# Altium integrated library Linear Technology Power Management Hot Swap Controllers.IntLib: 992 symbols (part 32 of 93)
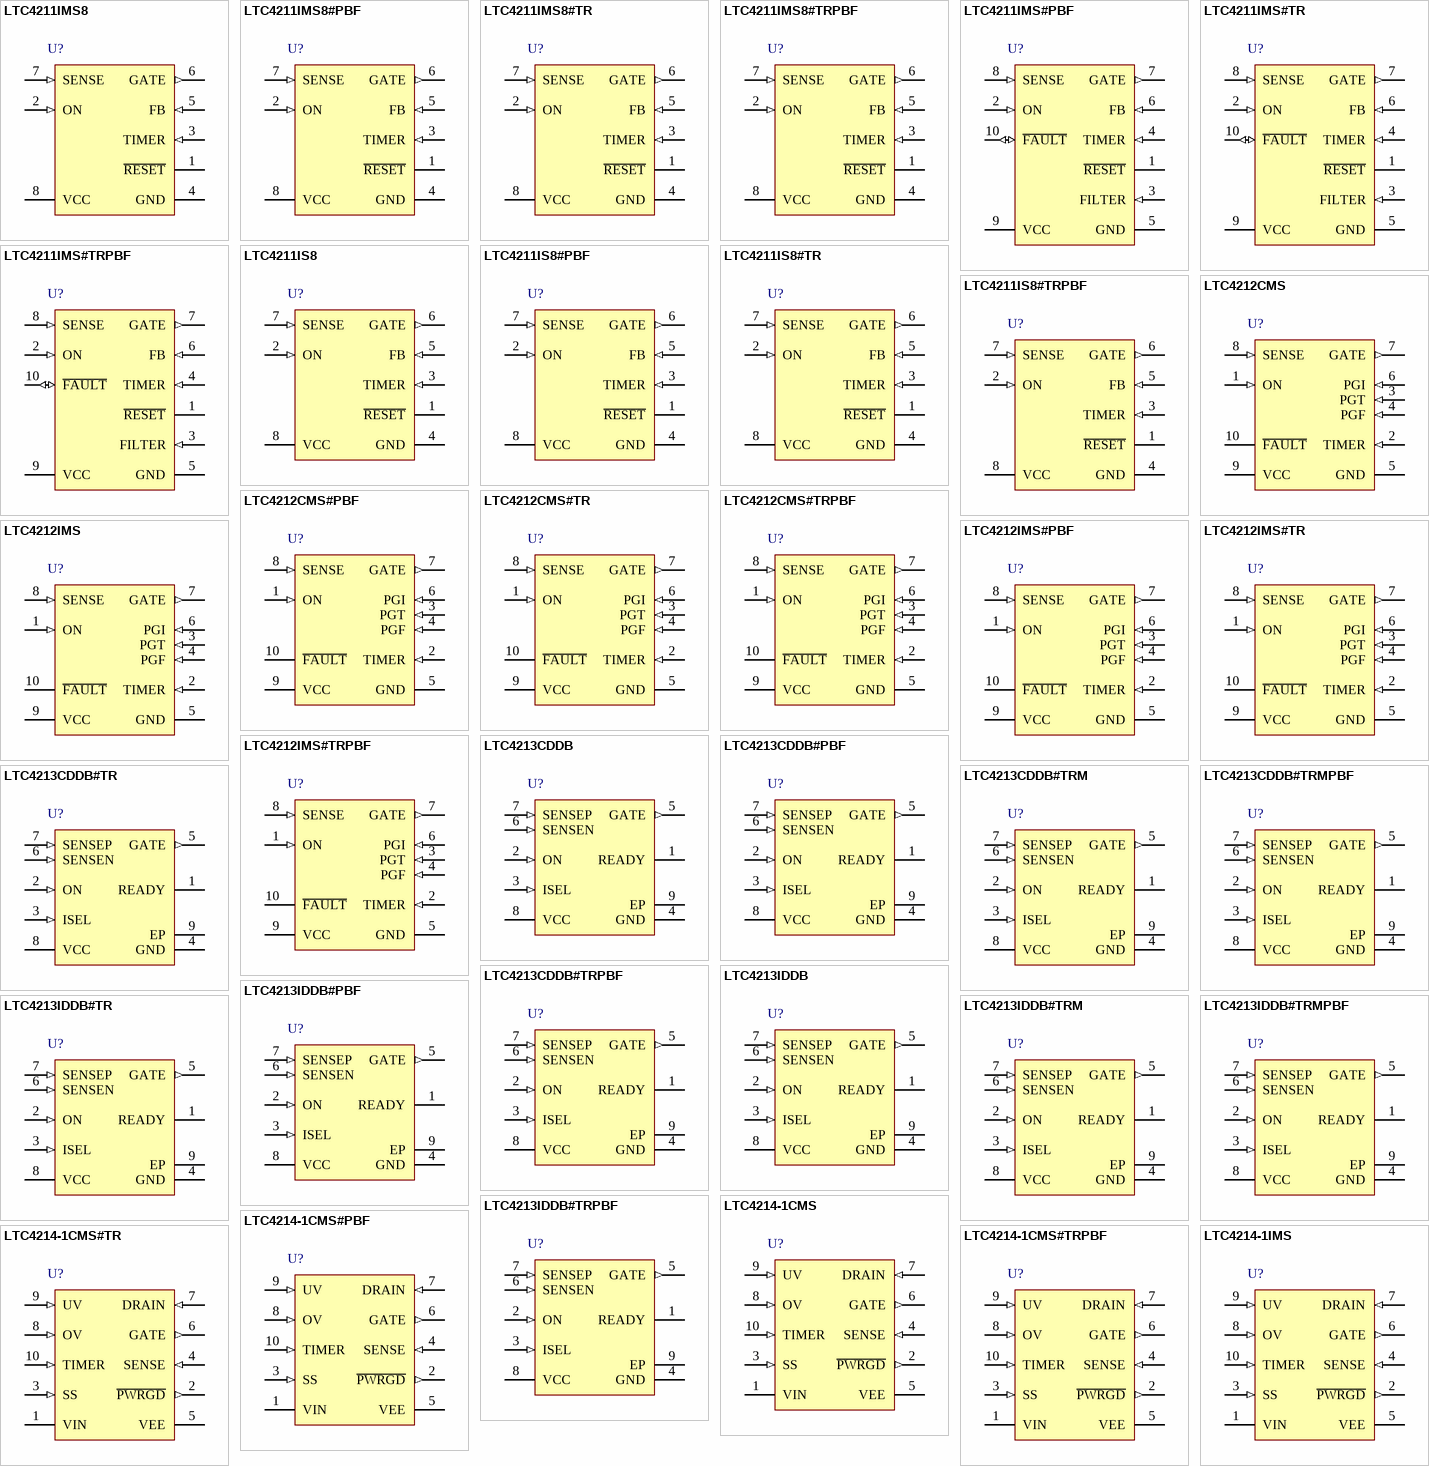
[diagram p68: symbols LTC4211IMS8 to LTC4214-1IMS]

## LTC4211IS8
designator U?
Hot Swap Controller with Multifunction Current Control, 2.5 to 16.5 V Vin, 8-pin SOIC (S8-8), -40 to 85 degC; Manufacturer: Linear Technology; PartNumber: LTC4211IS8; Active Limiting: no; Circuit Breaker Accuracy(%): 20; Circuit Breaker Threshold: 50 mV; Circuit Breakers(#): 1; Extended Temp: C, I; Fast Comparator: yes; In-Rush Current: Active; DatasheetVersion: Rev. B; PackageVersion: Rev. G, 03/2012; PackageReference: S8-8; PackageDescription: 8-Pin Plastic Small Outline (Narrow .150 Inch), Body 4.9 x 3.9 mm, Pitch 1.27 mm; Supplier 1: Digi-Key; Supplier Part Number 1: LTC4211IS8-ND; Fault: yes; Foldback: no; Power Good: no; Reset: yes; RoHS: FALSE; Vin Range: 2.5 to 16.5 V; Mounting Technology: Surface Mount; ComponentLink1Description: Manufacturer URL; ComponentLink1URL: http://www.linear.com/; ComponentLink2Description: Datasheet; ComponentLink2URL: http://cds.linear.com/docs/en/datasheet/4211fb.pdf; ComponentLink3Description: Package Specification; ComponentLink3URL: http://cds.linear.com/docs/en/packaging/05081610_G_SO8.pdf
footprint LT-S8-8_N (SOIC, 8-Leads, Body 5x4mm, Pitch 1.27mm, IPC Medium Density)
footprint LT-S8-8_L (SOIC, 8-Leads, Body 5x4mm, Pitch 1.27mm, IPC High Density)
footprint LT-S8-8_M (SOIC, 8-Leads, Body 5x4mm, Pitch 1.27mm, IPC Low Density)
pins: 1 ~{RESET} (hiz) "R\E\S\E\T\ (Pin 1/Pin 1): An open-drain output that pulls to GND if the voltage at the FB pin (Pin 5/Pin 6) falls below the FB pin threshold (1.236V). During the start-up cycle, the R\E\S\E\T\ pin goes high impedance at the (See Datasheet)", 2 ON (in) "ON (Pin 2/Pin 2): An active high signal used to enable or disable LTC4211 operation. COMP1's high-to-low threshold is set at 1.236V and its hysteresis is set at 80mV. If a logic high signal is applied to the ON pin (VON (See Datasheet)", 3 TIMER (in) "TIMER (Pin 3/Pin 4): A capacitor connected from this pin to GND sets the LTC4211's system timing. The LTC4211's initial and second start-up timing cycles and its internal "power good"± delay time are defined (See Datasheet)", 4 GND (power) "GND (Pin 4/Pin 5): Device Ground Connection. Connect this pin to the system's analog ground plane.", 5 FB (in) "FB (Pin 5/Pin 6): The FB (Feedback) pin is an input to the COMP2 comparator and monitors the output supply voltage through an external resistor divider. If VFB < 1.236V, the R\E\S\E\T\ pin pulls low. An internal glitch (See Datasheet)", 6 GATE (out) "GATE (Pin 6/Pin 7): The output signal at this pin is the high side gate drive for the external N-channel FET pass transistor. As shown in the Block Diagram, an internal charge pump supplies a 10uA gate current and sufficient (See Datasheet)", 7 SENSE (in) "SENSE (Pin 7/Pin 8): Circuit Breaker Set Pin. With a sense resistor placed in the power path between VCC and SENSE, the LTC4211's electronic circuit breaker trips if the voltage across the sense resistor exceeds th(See Datasheet)", 8 VCC (power) "VCC (Pin 8/Pin 9): This is the positive supply input to the LTC4211. The LTC4211 operates from 2.5V < VCC < 16.5V, and the supply current is typically 1mA. An internal undervoltage lockout circuit disables the device until (See Datasheet)"

## LTC4211IS8#PBF
designator U?
Hot Swap Controller with Multifunction Current Control, 2.5 to 16.5 V Vin, 8-pin SOIC (S8-8), -40 to 85 degC, Pb-Free; Manufacturer: Linear Technology; PartNumber: LTC4211IS8#PBF; Active Limiting: no; Circuit Breaker Accuracy(%): 20; Circuit Breaker Threshold: 50 mV; Circuit Breakers(#): 1; Extended Temp: C, I; Fast Comparator: yes; In-Rush Current: Active; DatasheetVersion: Rev. B; PackageVersion: Rev. G, 03/2012; PackageReference: S8-8; PackageDescription: 8-Pin Plastic Small Outline (Narrow .150 Inch), Body 4.9 x 3.9 mm, Pitch 1.27 mm; Supplier 1: Digi-Key; Supplier Part Number 1: LTC4211IS8#PBF-ND; Supplier 2: Farnell; Supplier Part Number 2: 2295324; Supplier 3: Newark; Supplier Part Number 3: 56M8788; Fault: yes; Foldback: no; Power Good: no; Reset: yes; RoHS: TRUE; Vin Range: 2.5 to 16.5 V; Mounting Technology: Surface Mount; ComponentLink1Description: Manufacturer URL; ComponentLink1URL: http://www.linear.com/; ComponentLink2Description: Datasheet; ComponentLink2URL: http://cds.linear.com/docs/en/datasheet/4211fb.pdf; ComponentLink3Description: Package Specification; ComponentLink3URL: http://cds.linear.com/docs/en/packaging/05081610_G_SO8.pdf
footprint LT-S8-8_N (SOIC, 8-Leads, Body 5x4mm, Pitch 1.27mm, IPC Medium Density)
footprint LT-S8-8_L (SOIC, 8-Leads, Body 5x4mm, Pitch 1.27mm, IPC High Density)
footprint LT-S8-8_M (SOIC, 8-Leads, Body 5x4mm, Pitch 1.27mm, IPC Low Density)
pins: 1 ~{RESET} (hiz) "R\E\S\E\T\ (Pin 1/Pin 1): An open-drain output that pulls to GND if the voltage at the FB pin (Pin 5/Pin 6) falls below the FB pin threshold (1.236V). During the start-up cycle, the R\E\S\E\T\ pin goes high impedance at the (See Datasheet)", 2 ON (in) "ON (Pin 2/Pin 2): An active high signal used to enable or disable LTC4211 operation. COMP1's high-to-low threshold is set at 1.236V and its hysteresis is set at 80mV. If a logic high signal is applied to the ON pin (VON (See Datasheet)", 3 TIMER (in) "TIMER (Pin 3/Pin 4): A capacitor connected from this pin to GND sets the LTC4211's system timing. The LTC4211's initial and second start-up timing cycles and its internal "power good"± delay time are defined (See Datasheet)", 4 GND (power) "GND (Pin 4/Pin 5): Device Ground Connection. Connect this pin to the system's analog ground plane.", 5 FB (in) "FB (Pin 5/Pin 6): The FB (Feedback) pin is an input to the COMP2 comparator and monitors the output supply voltage through an external resistor divider. If VFB < 1.236V, the R\E\S\E\T\ pin pulls low. An internal glitch (See Datasheet)", 6 GATE (out) "GATE (Pin 6/Pin 7): The output signal at this pin is the high side gate drive for the external N-channel FET pass transistor. As shown in the Block Diagram, an internal charge pump supplies a 10uA gate current and sufficient (See Datasheet)", 7 SENSE (in) "SENSE (Pin 7/Pin 8): Circuit Breaker Set Pin. With a sense resistor placed in the power path between VCC and SENSE, the LTC4211's electronic circuit breaker trips if the voltage across the sense resistor exceeds th(See Datasheet)", 8 VCC (power) "VCC (Pin 8/Pin 9): This is the positive supply input to the LTC4211. The LTC4211 operates from 2.5V < VCC < 16.5V, and the supply current is typically 1mA. An internal undervoltage lockout circuit disables the device until (See Datasheet)"

## LTC4211IS8#TR
designator U?
Hot Swap Controller with Multifunction Current Control, 2.5 to 16.5 V Vin, 8-pin SOIC (S8-8), -40 to 85 degC, Tape and Reel; Manufacturer: Linear Technology; PartNumber: LTC4211IS8#TR; Active Limiting: no; Circuit Breaker Accuracy(%): 20; Circuit Breaker Threshold: 50 mV; Circuit Breakers(#): 1; Extended Temp: C, I; Fast Comparator: yes; In-Rush Current: Active; DatasheetVersion: Rev. B; PackageVersion: Rev. G, 03/2012; PackageReference: S8-8; PackageDescription: 8-Pin Plastic Small Outline (Narrow .150 Inch), Body 4.9 x 3.9 mm, Pitch 1.27 mm; Supplier 1: Digi-Key; Supplier Part Number 1: LTC4211IS8TR-ND; Fault: yes; Foldback: no; Packing: Tape and Reel; Power Good: no; Reset: yes; RoHS: FALSE; Vin Range: 2.5 to 16.5 V; Mounting Technology: Surface Mount; ComponentLink1Description: Manufacturer URL; ComponentLink1URL: http://www.linear.com/; ComponentLink2Description: Datasheet; ComponentLink2URL: http://cds.linear.com/docs/en/datasheet/4211fb.pdf; ComponentLink3Description: Package Specification; ComponentLink3URL: http://cds.linear.com/docs/en/packaging/05081610_G_SO8.pdf
footprint LT-S8-8_N (SOIC, 8-Leads, Body 5x4mm, Pitch 1.27mm, IPC Medium Density)
footprint LT-S8-8_L (SOIC, 8-Leads, Body 5x4mm, Pitch 1.27mm, IPC High Density)
footprint LT-S8-8_M (SOIC, 8-Leads, Body 5x4mm, Pitch 1.27mm, IPC Low Density)
pins: 1 ~{RESET} (hiz) "R\E\S\E\T\ (Pin 1/Pin 1): An open-drain output that pulls to GND if the voltage at the FB pin (Pin 5/Pin 6) falls below the FB pin threshold (1.236V). During the start-up cycle, the R\E\S\E\T\ pin goes high impedance at the (See Datasheet)", 2 ON (in) "ON (Pin 2/Pin 2): An active high signal used to enable or disable LTC4211 operation. COMP1's high-to-low threshold is set at 1.236V and its hysteresis is set at 80mV. If a logic high signal is applied to the ON pin (VON (See Datasheet)", 3 TIMER (in) "TIMER (Pin 3/Pin 4): A capacitor connected from this pin to GND sets the LTC4211's system timing. The LTC4211's initial and second start-up timing cycles and its internal "power good"± delay time are defined (See Datasheet)", 4 GND (power) "GND (Pin 4/Pin 5): Device Ground Connection. Connect this pin to the system's analog ground plane.", 5 FB (in) "FB (Pin 5/Pin 6): The FB (Feedback) pin is an input to the COMP2 comparator and monitors the output supply voltage through an external resistor divider. If VFB < 1.236V, the R\E\S\E\T\ pin pulls low. An internal glitch (See Datasheet)", 6 GATE (out) "GATE (Pin 6/Pin 7): The output signal at this pin is the high side gate drive for the external N-channel FET pass transistor. As shown in the Block Diagram, an internal charge pump supplies a 10uA gate current and sufficient (See Datasheet)", 7 SENSE (in) "SENSE (Pin 7/Pin 8): Circuit Breaker Set Pin. With a sense resistor placed in the power path between VCC and SENSE, the LTC4211's electronic circuit breaker trips if the voltage across the sense resistor exceeds th(See Datasheet)", 8 VCC (power) "VCC (Pin 8/Pin 9): This is the positive supply input to the LTC4211. The LTC4211 operates from 2.5V < VCC < 16.5V, and the supply current is typically 1mA. An internal undervoltage lockout circuit disables the device until (See Datasheet)"

## LTC4211IS8#TRPBF
designator U?
Hot Swap Controller with Multifunction Current Control, 2.5 to 16.5 V Vin, 8-pin SOIC (S8-8), -40 to 85 degC, Pb-Free, Tape and Reel; Manufacturer: Linear Technology; PartNumber: LTC4211IS8#TRPBF; Active Limiting: no; Circuit Breaker Accuracy(%): 20; Circuit Breaker Threshold: 50 mV; Circuit Breakers(#): 1; Extended Temp: C, I; Fast Comparator: yes; In-Rush Current: Active; DatasheetVersion: Rev. B; PackageVersion: Rev. G, 03/2012; PackageReference: S8-8; PackageDescription: 8-Pin Plastic Small Outline (Narrow .150 Inch), Body 4.9 x 3.9 mm, Pitch 1.27 mm; Supplier 1: Digi-Key; Supplier Part Number 1: LTC4211IS8#TRPBF-ND; Fault: yes; Foldback: no; Packing: Tape and Reel; Power Good: no; Reset: yes; RoHS: TRUE; Vin Range: 2.5 to 16.5 V; Mounting Technology: Surface Mount; ComponentLink1Description: Manufacturer URL; ComponentLink1URL: http://www.linear.com/; ComponentLink2Description: Datasheet; ComponentLink2URL: http://cds.linear.com/docs/en/datasheet/4211fb.pdf; ComponentLink3Description: Package Specification; ComponentLink3URL: http://cds.linear.com/docs/en/packaging/05081610_G_SO8.pdf
footprint LT-S8-8_N (SOIC, 8-Leads, Body 5x4mm, Pitch 1.27mm, IPC Medium Density)
footprint LT-S8-8_L (SOIC, 8-Leads, Body 5x4mm, Pitch 1.27mm, IPC High Density)
footprint LT-S8-8_M (SOIC, 8-Leads, Body 5x4mm, Pitch 1.27mm, IPC Low Density)
pins: 1 ~{RESET} (hiz) "R\E\S\E\T\ (Pin 1/Pin 1): An open-drain output that pulls to GND if the voltage at the FB pin (Pin 5/Pin 6) falls below the FB pin threshold (1.236V). During the start-up cycle, the R\E\S\E\T\ pin goes high impedance at the (See Datasheet)", 2 ON (in) "ON (Pin 2/Pin 2): An active high signal used to enable or disable LTC4211 operation. COMP1's high-to-low threshold is set at 1.236V and its hysteresis is set at 80mV. If a logic high signal is applied to the ON pin (VON (See Datasheet)", 3 TIMER (in) "TIMER (Pin 3/Pin 4): A capacitor connected from this pin to GND sets the LTC4211's system timing. The LTC4211's initial and second start-up timing cycles and its internal "power good"± delay time are defined (See Datasheet)", 4 GND (power) "GND (Pin 4/Pin 5): Device Ground Connection. Connect this pin to the system's analog ground plane.", 5 FB (in) "FB (Pin 5/Pin 6): The FB (Feedback) pin is an input to the COMP2 comparator and monitors the output supply voltage through an external resistor divider. If VFB < 1.236V, the R\E\S\E\T\ pin pulls low. An internal glitch (See Datasheet)", 6 GATE (out) "GATE (Pin 6/Pin 7): The output signal at this pin is the high side gate drive for the external N-channel FET pass transistor. As shown in the Block Diagram, an internal charge pump supplies a 10uA gate current and sufficient (See Datasheet)", 7 SENSE (in) "SENSE (Pin 7/Pin 8): Circuit Breaker Set Pin. With a sense resistor placed in the power path between VCC and SENSE, the LTC4211's electronic circuit breaker trips if the voltage across the sense resistor exceeds th(See Datasheet)", 8 VCC (power) "VCC (Pin 8/Pin 9): This is the positive supply input to the LTC4211. The LTC4211 operates from 2.5V < VCC < 16.5V, and the supply current is typically 1mA. An internal undervoltage lockout circuit disables the device until (See Datasheet)"

## LTC4212CMS
designator U?
Hot Swap Controller with Power-Up Timeout, 2.5 to 16.5 V Vin, 10-pin SOP (MS-10), 0 to 70 degC; Manufacturer: Linear Technology; PartNumber: LTC4212CMS; Active Limiting: no; Circuit Breaker Accuracy(%): 20; Circuit Breaker Threshold: 50 mV; Circuit Breakers(#): 1; Extended Temp: C, I; Fast Comparator: yes; In-Rush Current: Active; PackageVersion: Rev. E, 06/2010; PackageReference: MS-10; PackageDescription: 10-Pin Plastic MSOP, Body 3 x 3 mm, Pitch 0.5 mm; Supplier 1: Digi-Key; Supplier Part Number 1: LTC4212CMS-ND; Fault: no; Foldback: no; Power Good: no; Reset: no; RoHS: FALSE; Vin Range: 2.5 to 16.5 V; Mounting Technology: Surface Mount; ComponentLink1Description: Manufacturer URL; ComponentLink1URL: http://www.linear.com/; ComponentLink2Description: Datasheet; ComponentLink2URL: http://cds.linear.com/docs/en/datasheet/4212f.pdf; ComponentLink3Description: Package Specification; ComponentLink3URL: http://cds.linear.com/docs/en/packaging/05081661_F_MS.pdf
footprint LT-MS-10_N (SOP, 10-Leads, Body 3.1x3.1mm, Pitch 0.5mm, IPC Medium Density)
footprint LT-MS-10_L (SOP, 10-Leads, Body 3.1x3.1mm, Pitch 0.5mm, IPC High Density)
footprint LT-MS-10_M (SOP, 10-Leads, Body 3.1x3.1mm, Pitch 0.5mm, IPC Low Density)
pins: 1 ON (in) "On/Off Control Input. The ON pin is used to enable and disable LTC4212 operation and reset internal logic and the electronic circuit breaker (ECB). It must be pulled high (>1.316V) to start the first system timing cycle. If (See Datasheet)", 2 TIMER (in) "System Timer Input. An external capacitor (CTIMER) connected from this pin to ground determines the duration of the first and second system timing cycles. The first timing cycle allows time for the board to be inserted (See Datasheet)", 3 PGT (in) "Power Good Timer Input. An external capacitor (CPGT) connected from this pin to ground sets the power good time-out period. This is the maximum time allowed for externally monitored DC/DC converters to power-up into (See Datasheet)", 4 PGF (in) "Power Good Glitch Filter Input. An external capacitor (CPGF) connected from this pin to ground determines the power good glitch filter delay. The glitch filter is enabled if the externally monitored DC/DC converters are (See Datasheet)", 5 GND (power) "Device Ground Connection. Connect this pin to the system’s analog ground plane.", 6 PGI (in) "Power Good Input Pin. This pin is used by the power good circuit to sense the open drain R\S\T\ output or comparator outputs of an external supply monitor IC or the PGOOD output of a DC/DC converter. It requires an external (See Datasheet)", 7 GATE (out) "Gate Output Pin. The output signal at this pin is the high side gate drive for the external N-channel FET pass transistor. As shown in the Block Diagram, an internal charge pump supplies a 10mA gate current and sufficient (See Datasheet)", 8 SENSE (in) "Circuit Breaker Set Pin. With a sense resistor placed in the power path between VCC and SENSE, the LTC4212’s electronic circuit breaker trips if the voltage across the sense resistor exceeds the thresholds set internall(See Datasheet)", 9 VCC (power) "This is the positive supply input to the LTC4212. The LTC4212 operates from 2.5V < VCC < 16.5V, and the supply current is typically 1mA. An internal undervoltage lockout circuit disables the device until the voltage at VCC (See Datasheet)", 10 ~{FAULT} (oc) "Open Drain F\A\U\L\T\ Output or External connected by a 10k pull-up resistor to VCC. An external circuit can also trip the ECB by driving F\A\U\L\T\ below 1.236V (typical). F\A\U\L\T\ Input. If the FAST COMP, SLOW COMP or (See Datasheet)"

## LTC4212CMS#PBF
designator U?
Hot Swap Controller with Power-Up Timeout, 2.5 to 16.5 V Vin, 10-pin SOP (MS-10), 0 to 70 degC, Pb-Free; Manufacturer: Linear Technology; PartNumber: LTC4212CMS#PBF; Active Limiting: no; Circuit Breaker Accuracy(%): 20; Circuit Breaker Threshold: 50 mV; Circuit Breakers(#): 1; Extended Temp: C, I; Fast Comparator: yes; In-Rush Current: Active; PackageVersion: Rev. E, 06/2010; PackageReference: MS-10; PackageDescription: 10-Pin Plastic MSOP, Body 3 x 3 mm, Pitch 0.5 mm; Supplier 1: Digi-Key; Supplier Part Number 1: LTC4212CMS#PBF-ND; Supplier 2: Newark; Supplier Part Number 2: 56M8792; Fault: no; Foldback: no; Power Good: no; Reset: no; RoHS: TRUE; Vin Range: 2.5 to 16.5 V; Mounting Technology: Surface Mount; ComponentLink1Description: Manufacturer URL; ComponentLink1URL: http://www.linear.com/; ComponentLink2Description: Datasheet; ComponentLink2URL: http://cds.linear.com/docs/en/datasheet/4212f.pdf; ComponentLink3Description: Package Specification; ComponentLink3URL: http://cds.linear.com/docs/en/packaging/05081661_F_MS.pdf
footprint LT-MS-10_N (SOP, 10-Leads, Body 3.1x3.1mm, Pitch 0.5mm, IPC Medium Density)
footprint LT-MS-10_L (SOP, 10-Leads, Body 3.1x3.1mm, Pitch 0.5mm, IPC High Density)
footprint LT-MS-10_M (SOP, 10-Leads, Body 3.1x3.1mm, Pitch 0.5mm, IPC Low Density)
pins: 1 ON (in) "On/Off Control Input. The ON pin is used to enable and disable LTC4212 operation and reset internal logic and the electronic circuit breaker (ECB). It must be pulled high (>1.316V) to start the first system timing cycle. If (See Datasheet)", 2 TIMER (in) "System Timer Input. An external capacitor (CTIMER) connected from this pin to ground determines the duration of the first and second system timing cycles. The first timing cycle allows time for the board to be inserted (See Datasheet)", 3 PGT (in) "Power Good Timer Input. An external capacitor (CPGT) connected from this pin to ground sets the power good time-out period. This is the maximum time allowed for externally monitored DC/DC converters to power-up into (See Datasheet)", 4 PGF (in) "Power Good Glitch Filter Input. An external capacitor (CPGF) connected from this pin to ground determines the power good glitch filter delay. The glitch filter is enabled if the externally monitored DC/DC converters are (See Datasheet)", 5 GND (power) "Device Ground Connection. Connect this pin to the system’s analog ground plane.", 6 PGI (in) "Power Good Input Pin. This pin is used by the power good circuit to sense the open drain R\S\T\ output or comparator outputs of an external supply monitor IC or the PGOOD output of a DC/DC converter. It requires an external (See Datasheet)", 7 GATE (out) "Gate Output Pin. The output signal at this pin is the high side gate drive for the external N-channel FET pass transistor. As shown in the Block Diagram, an internal charge pump supplies a 10mA gate current and sufficient (See Datasheet)", 8 SENSE (in) "Circuit Breaker Set Pin. With a sense resistor placed in the power path between VCC and SENSE, the LTC4212’s electronic circuit breaker trips if the voltage across the sense resistor exceeds the thresholds set internall(See Datasheet)", 9 VCC (power) "This is the positive supply input to the LTC4212. The LTC4212 operates from 2.5V < VCC < 16.5V, and the supply current is typically 1mA. An internal undervoltage lockout circuit disables the device until the voltage at VCC (See Datasheet)", 10 ~{FAULT} (oc) "Open Drain F\A\U\L\T\ Output or External connected by a 10k pull-up resistor to VCC. An external circuit can also trip the ECB by driving F\A\U\L\T\ below 1.236V (typical). F\A\U\L\T\ Input. If the FAST COMP, SLOW COMP or (See Datasheet)"

## LTC4212CMS#TR
designator U?
Hot Swap Controller with Power-Up Timeout, 2.5 to 16.5 V Vin, 10-pin SOP (MS-10), 0 to 70 degC, Tape and Reel; Manufacturer: Linear Technology; PartNumber: LTC4212CMS#TR; Active Limiting: no; Circuit Breaker Accuracy(%): 20; Circuit Breaker Threshold: 50 mV; Circuit Breakers(#): 1; Extended Temp: C, I; Fast Comparator: yes; In-Rush Current: Active; PackageVersion: Rev. E, 06/2010; PackageReference: MS-10; PackageDescription: 10-Pin Plastic MSOP, Body 3 x 3 mm, Pitch 0.5 mm; Supplier 1: Digi-Key; Supplier Part Number 1: LTC4212CMS#TR-ND; Fault: no; Foldback: no; Packing: Tape and Reel; Power Good: no; Reset: no; RoHS: FALSE; Vin Range: 2.5 to 16.5 V; Mounting Technology: Surface Mount; ComponentLink1Description: Manufacturer URL; ComponentLink1URL: http://www.linear.com/; ComponentLink2Description: Datasheet; ComponentLink2URL: http://cds.linear.com/docs/en/datasheet/4212f.pdf; ComponentLink3Description: Package Specification; ComponentLink3URL: http://cds.linear.com/docs/en/packaging/05081661_F_MS.pdf
footprint LT-MS-10_N (SOP, 10-Leads, Body 3.1x3.1mm, Pitch 0.5mm, IPC Medium Density)
footprint LT-MS-10_L (SOP, 10-Leads, Body 3.1x3.1mm, Pitch 0.5mm, IPC High Density)
footprint LT-MS-10_M (SOP, 10-Leads, Body 3.1x3.1mm, Pitch 0.5mm, IPC Low Density)
pins: 1 ON (in) "On/Off Control Input. The ON pin is used to enable and disable LTC4212 operation and reset internal logic and the electronic circuit breaker (ECB). It must be pulled high (>1.316V) to start the first system timing cycle. If (See Datasheet)", 2 TIMER (in) "System Timer Input. An external capacitor (CTIMER) connected from this pin to ground determines the duration of the first and second system timing cycles. The first timing cycle allows time for the board to be inserted (See Datasheet)", 3 PGT (in) "Power Good Timer Input. An external capacitor (CPGT) connected from this pin to ground sets the power good time-out period. This is the maximum time allowed for externally monitored DC/DC converters to power-up into (See Datasheet)", 4 PGF (in) "Power Good Glitch Filter Input. An external capacitor (CPGF) connected from this pin to ground determines the power good glitch filter delay. The glitch filter is enabled if the externally monitored DC/DC converters are (See Datasheet)", 5 GND (power) "Device Ground Connection. Connect this pin to the system’s analog ground plane.", 6 PGI (in) "Power Good Input Pin. This pin is used by the power good circuit to sense the open drain R\S\T\ output or comparator outputs of an external supply monitor IC or the PGOOD output of a DC/DC converter. It requires an external (See Datasheet)", 7 GATE (out) "Gate Output Pin. The output signal at this pin is the high side gate drive for the external N-channel FET pass transistor. As shown in the Block Diagram, an internal charge pump supplies a 10mA gate current and sufficient (See Datasheet)", 8 SENSE (in) "Circuit Breaker Set Pin. With a sense resistor placed in the power path between VCC and SENSE, the LTC4212’s electronic circuit breaker trips if the voltage across the sense resistor exceeds the thresholds set internall(See Datasheet)", 9 VCC (power) "This is the positive supply input to the LTC4212. The LTC4212 operates from 2.5V < VCC < 16.5V, and the supply current is typically 1mA. An internal undervoltage lockout circuit disables the device until the voltage at VCC (See Datasheet)", 10 ~{FAULT} (oc) "Open Drain F\A\U\L\T\ Output or External connected by a 10k pull-up resistor to VCC. An external circuit can also trip the ECB by driving F\A\U\L\T\ below 1.236V (typical). F\A\U\L\T\ Input. If the FAST COMP, SLOW COMP or (See Datasheet)"

## LTC4212CMS#TRPBF
designator U?
Hot Swap Controller with Power-Up Timeout, 2.5 to 16.5 V Vin, 10-pin SOP (MS-10), 0 to 70 degC, Pb-Free, Tape and Reel; Manufacturer: Linear Technology; PartNumber: LTC4212CMS#TRPBF; Active Limiting: no; Circuit Breaker Accuracy(%): 20; Circuit Breaker Threshold: 50 mV; Circuit Breakers(#): 1; Extended Temp: C, I; Fast Comparator: yes; In-Rush Current: Active; PackageVersion: Rev. E, 06/2010; PackageReference: MS-10; PackageDescription: 10-Pin Plastic MSOP, Body 3 x 3 mm, Pitch 0.5 mm; Supplier 1: Digi-Key; Supplier Part Number 1: LTC4212CMS#TRPBF-ND; Supplier 2: Newark; Supplier Part Number 2: 56M8794; Fault: no; Foldback: no; Packing: Tape and Reel; Power Good: no; Reset: no; RoHS: TRUE; Vin Range: 2.5 to 16.5 V; Mounting Technology: Surface Mount; ComponentLink1Description: Manufacturer URL; ComponentLink1URL: http://www.linear.com/; ComponentLink2Description: Datasheet; ComponentLink2URL: http://cds.linear.com/docs/en/datasheet/4212f.pdf; ComponentLink3Description: Package Specification; ComponentLink3URL: http://cds.linear.com/docs/en/packaging/05081661_F_MS.pdf
footprint LT-MS-10_N (SOP, 10-Leads, Body 3.1x3.1mm, Pitch 0.5mm, IPC Medium Density)
footprint LT-MS-10_L (SOP, 10-Leads, Body 3.1x3.1mm, Pitch 0.5mm, IPC High Density)
footprint LT-MS-10_M (SOP, 10-Leads, Body 3.1x3.1mm, Pitch 0.5mm, IPC Low Density)
pins: 1 ON (in) "On/Off Control Input. The ON pin is used to enable and disable LTC4212 operation and reset internal logic and the electronic circuit breaker (ECB). It must be pulled high (>1.316V) to start the first system timing cycle. If (See Datasheet)", 2 TIMER (in) "System Timer Input. An external capacitor (CTIMER) connected from this pin to ground determines the duration of the first and second system timing cycles. The first timing cycle allows time for the board to be inserted (See Datasheet)", 3 PGT (in) "Power Good Timer Input. An external capacitor (CPGT) connected from this pin to ground sets the power good time-out period. This is the maximum time allowed for externally monitored DC/DC converters to power-up into (See Datasheet)", 4 PGF (in) "Power Good Glitch Filter Input. An external capacitor (CPGF) connected from this pin to ground determines the power good glitch filter delay. The glitch filter is enabled if the externally monitored DC/DC converters are (See Datasheet)", 5 GND (power) "Device Ground Connection. Connect this pin to the system’s analog ground plane.", 6 PGI (in) "Power Good Input Pin. This pin is used by the power good circuit to sense the open drain R\S\T\ output or comparator outputs of an external supply monitor IC or the PGOOD output of a DC/DC converter. It requires an external (See Datasheet)", 7 GATE (out) "Gate Output Pin. The output signal at this pin is the high side gate drive for the external N-channel FET pass transistor. As shown in the Block Diagram, an internal charge pump supplies a 10mA gate current and sufficient (See Datasheet)", 8 SENSE (in) "Circuit Breaker Set Pin. With a sense resistor placed in the power path between VCC and SENSE, the LTC4212’s electronic circuit breaker trips if the voltage across the sense resistor exceeds the thresholds set internall(See Datasheet)", 9 VCC (power) "This is the positive supply input to the LTC4212. The LTC4212 operates from 2.5V < VCC < 16.5V, and the supply current is typically 1mA. An internal undervoltage lockout circuit disables the device until the voltage at VCC (See Datasheet)", 10 ~{FAULT} (oc) "Open Drain F\A\U\L\T\ Output or External connected by a 10k pull-up resistor to VCC. An external circuit can also trip the ECB by driving F\A\U\L\T\ below 1.236V (typical). F\A\U\L\T\ Input. If the FAST COMP, SLOW COMP or (See Datasheet)"

## LTC4212IMS
designator U?
Hot Swap Controller with Power-Up Timeout, 2.5 to 16.5 V Vin, 10-pin SOP (MS-10), -40 to 85 degC; Manufacturer: Linear Technology; PartNumber: LTC4212IMS; Active Limiting: no; Circuit Breaker Accuracy(%): 20; Circuit Breaker Threshold: 50 mV; Circuit Breakers(#): 1; Extended Temp: C, I; Fast Comparator: yes; In-Rush Current: Active; PackageVersion: Rev. E, 06/2010; PackageReference: MS-10; PackageDescription: 10-Pin Plastic MSOP, Body 3 x 3 mm, Pitch 0.5 mm; Supplier 1: Digi-Key; Supplier Part Number 1: LTC4212IMS-ND; Supplier 2: Newark; Supplier Part Number 2: 56M8795; Fault: no; Foldback: no; Power Good: no; Reset: no; RoHS: FALSE; Vin Range: 2.5 to 16.5 V; Mounting Technology: Surface Mount; ComponentLink1Description: Manufacturer URL; ComponentLink1URL: http://www.linear.com/; ComponentLink2Description: Datasheet; ComponentLink2URL: http://cds.linear.com/docs/en/datasheet/4212f.pdf; ComponentLink3Description: Package Specification; ComponentLink3URL: http://cds.linear.com/docs/en/packaging/05081661_F_MS.pdf
footprint LT-MS-10_N (SOP, 10-Leads, Body 3.1x3.1mm, Pitch 0.5mm, IPC Medium Density)
footprint LT-MS-10_L (SOP, 10-Leads, Body 3.1x3.1mm, Pitch 0.5mm, IPC High Density)
footprint LT-MS-10_M (SOP, 10-Leads, Body 3.1x3.1mm, Pitch 0.5mm, IPC Low Density)
pins: 1 ON (in) "On/Off Control Input. The ON pin is used to enable and disable LTC4212 operation and reset internal logic and the electronic circuit breaker (ECB). It must be pulled high (>1.316V) to start the first system timing cycle. If (See Datasheet)", 2 TIMER (in) "System Timer Input. An external capacitor (CTIMER) connected from this pin to ground determines the duration of the first and second system timing cycles. The first timing cycle allows time for the board to be inserted (See Datasheet)", 3 PGT (in) "Power Good Timer Input. An external capacitor (CPGT) connected from this pin to ground sets the power good time-out period. This is the maximum time allowed for externally monitored DC/DC converters to power-up into (See Datasheet)", 4 PGF (in) "Power Good Glitch Filter Input. An external capacitor (CPGF) connected from this pin to ground determines the power good glitch filter delay. The glitch filter is enabled if the externally monitored DC/DC converters are (See Datasheet)", 5 GND (power) "Device Ground Connection. Connect this pin to the system’s analog ground plane.", 6 PGI (in) "Power Good Input Pin. This pin is used by the power good circuit to sense the open drain R\S\T\ output or comparator outputs of an external supply monitor IC or the PGOOD output of a DC/DC converter. It requires an external (See Datasheet)", 7 GATE (out) "Gate Output Pin. The output signal at this pin is the high side gate drive for the external N-channel FET pass transistor. As shown in the Block Diagram, an internal charge pump supplies a 10mA gate current and sufficient (See Datasheet)", 8 SENSE (in) "Circuit Breaker Set Pin. With a sense resistor placed in the power path between VCC and SENSE, the LTC4212’s electronic circuit breaker trips if the voltage across the sense resistor exceeds the thresholds set internall(See Datasheet)", 9 VCC (power) "This is the positive supply input to the LTC4212. The LTC4212 operates from 2.5V < VCC < 16.5V, and the supply current is typically 1mA. An internal undervoltage lockout circuit disables the device until the voltage at VCC (See Datasheet)", 10 ~{FAULT} (oc) "Open Drain F\A\U\L\T\ Output or External connected by a 10k pull-up resistor to VCC. An external circuit can also trip the ECB by driving F\A\U\L\T\ below 1.236V (typical). F\A\U\L\T\ Input. If the FAST COMP, SLOW COMP or (See Datasheet)"

## LTC4212IMS#PBF
designator U?
Hot Swap Controller with Power-Up Timeout, 2.5 to 16.5 V Vin, 10-pin SOP (MS-10), -40 to 85 degC, Pb-Free; Manufacturer: Linear Technology; PartNumber: LTC4212IMS#PBF; Active Limiting: no; Circuit Breaker Accuracy(%): 20; Circuit Breaker Threshold: 50 mV; Circuit Breakers(#): 1; Extended Temp: C, I; Fast Comparator: yes; In-Rush Current: Active; PackageVersion: Rev. E, 06/2010; PackageReference: MS-10; PackageDescription: 10-Pin Plastic MSOP, Body 3 x 3 mm, Pitch 0.5 mm; Supplier 1: Digi-Key; Supplier Part Number 1: LTC4212IMS#PBF-ND; Supplier 2: Newark; Supplier Part Number 2: 56M8796; Fault: no; Foldback: no; Power Good: no; Reset: no; RoHS: TRUE; Vin Range: 2.5 to 16.5 V; Mounting Technology: Surface Mount; ComponentLink1Description: Manufacturer URL; ComponentLink1URL: http://www.linear.com/; ComponentLink2Description: Datasheet; ComponentLink2URL: http://cds.linear.com/docs/en/datasheet/4212f.pdf; ComponentLink3Description: Package Specification; ComponentLink3URL: http://cds.linear.com/docs/en/packaging/05081661_F_MS.pdf
footprint LT-MS-10_N (SOP, 10-Leads, Body 3.1x3.1mm, Pitch 0.5mm, IPC Medium Density)
footprint LT-MS-10_L (SOP, 10-Leads, Body 3.1x3.1mm, Pitch 0.5mm, IPC High Density)
footprint LT-MS-10_M (SOP, 10-Leads, Body 3.1x3.1mm, Pitch 0.5mm, IPC Low Density)
pins: 1 ON (in) "On/Off Control Input. The ON pin is used to enable and disable LTC4212 operation and reset internal logic and the electronic circuit breaker (ECB). It must be pulled high (>1.316V) to start the first system timing cycle. If (See Datasheet)", 2 TIMER (in) "System Timer Input. An external capacitor (CTIMER) connected from this pin to ground determines the duration of the first and second system timing cycles. The first timing cycle allows time for the board to be inserted (See Datasheet)", 3 PGT (in) "Power Good Timer Input. An external capacitor (CPGT) connected from this pin to ground sets the power good time-out period. This is the maximum time allowed for externally monitored DC/DC converters to power-up into (See Datasheet)", 4 PGF (in) "Power Good Glitch Filter Input. An external capacitor (CPGF) connected from this pin to ground determines the power good glitch filter delay. The glitch filter is enabled if the externally monitored DC/DC converters are (See Datasheet)", 5 GND (power) "Device Ground Connection. Connect this pin to the system’s analog ground plane.", 6 PGI (in) "Power Good Input Pin. This pin is used by the power good circuit to sense the open drain R\S\T\ output or comparator outputs of an external supply monitor IC or the PGOOD output of a DC/DC converter. It requires an external (See Datasheet)", 7 GATE (out) "Gate Output Pin. The output signal at this pin is the high side gate drive for the external N-channel FET pass transistor. As shown in the Block Diagram, an internal charge pump supplies a 10mA gate current and sufficient (See Datasheet)", 8 SENSE (in) "Circuit Breaker Set Pin. With a sense resistor placed in the power path between VCC and SENSE, the LTC4212’s electronic circuit breaker trips if the voltage across the sense resistor exceeds the thresholds set internall(See Datasheet)", 9 VCC (power) "This is the positive supply input to the LTC4212. The LTC4212 operates from 2.5V < VCC < 16.5V, and the supply current is typically 1mA. An internal undervoltage lockout circuit disables the device until the voltage at VCC (See Datasheet)", 10 ~{FAULT} (oc) "Open Drain F\A\U\L\T\ Output or External connected by a 10k pull-up resistor to VCC. An external circuit can also trip the ECB by driving F\A\U\L\T\ below 1.236V (typical). F\A\U\L\T\ Input. If the FAST COMP, SLOW COMP or (See Datasheet)"

## LTC4212IMS#TR
designator U?
Hot Swap Controller with Power-Up Timeout, 2.5 to 16.5 V Vin, 10-pin SOP (MS-10), -40 to 85 degC, Tape and Reel; Manufacturer: Linear Technology; PartNumber: LTC4212IMS#TR; Active Limiting: no; Circuit Breaker Accuracy(%): 20; Circuit Breaker Threshold: 50 mV; Circuit Breakers(#): 1; Extended Temp: C, I; Fast Comparator: yes; In-Rush Current: Active; PackageVersion: Rev. E, 06/2010; PackageReference: MS-10; PackageDescription: 10-Pin Plastic MSOP, Body 3 x 3 mm, Pitch 0.5 mm; Supplier 1: Digi-Key; Supplier Part Number 1: LTC4212IMS#TR-ND; Fault: no; Foldback: no; Packing: Tape and Reel; Power Good: no; Reset: no; RoHS: FALSE; Vin Range: 2.5 to 16.5 V; Mounting Technology: Surface Mount; ComponentLink1Description: Manufacturer URL; ComponentLink1URL: http://www.linear.com/; ComponentLink2Description: Datasheet; ComponentLink2URL: http://cds.linear.com/docs/en/datasheet/4212f.pdf; ComponentLink3Description: Package Specification; ComponentLink3URL: http://cds.linear.com/docs/en/packaging/05081661_F_MS.pdf
footprint LT-MS-10_N (SOP, 10-Leads, Body 3.1x3.1mm, Pitch 0.5mm, IPC Medium Density)
footprint LT-MS-10_L (SOP, 10-Leads, Body 3.1x3.1mm, Pitch 0.5mm, IPC High Density)
footprint LT-MS-10_M (SOP, 10-Leads, Body 3.1x3.1mm, Pitch 0.5mm, IPC Low Density)
pins: 1 ON (in) "On/Off Control Input. The ON pin is used to enable and disable LTC4212 operation and reset internal logic and the electronic circuit breaker (ECB). It must be pulled high (>1.316V) to start the first system timing cycle. If (See Datasheet)", 2 TIMER (in) "System Timer Input. An external capacitor (CTIMER) connected from this pin to ground determines the duration of the first and second system timing cycles. The first timing cycle allows time for the board to be inserted (See Datasheet)", 3 PGT (in) "Power Good Timer Input. An external capacitor (CPGT) connected from this pin to ground sets the power good time-out period. This is the maximum time allowed for externally monitored DC/DC converters to power-up into (See Datasheet)", 4 PGF (in) "Power Good Glitch Filter Input. An external capacitor (CPGF) connected from this pin to ground determines the power good glitch filter delay. The glitch filter is enabled if the externally monitored DC/DC converters are (See Datasheet)", 5 GND (power) "Device Ground Connection. Connect this pin to the system’s analog ground plane.", 6 PGI (in) "Power Good Input Pin. This pin is used by the power good circuit to sense the open drain R\S\T\ output or comparator outputs of an external supply monitor IC or the PGOOD output of a DC/DC converter. It requires an external (See Datasheet)", 7 GATE (out) "Gate Output Pin. The output signal at this pin is the high side gate drive for the external N-channel FET pass transistor. As shown in the Block Diagram, an internal charge pump supplies a 10mA gate current and sufficient (See Datasheet)", 8 SENSE (in) "Circuit Breaker Set Pin. With a sense resistor placed in the power path between VCC and SENSE, the LTC4212’s electronic circuit breaker trips if the voltage across the sense resistor exceeds the thresholds set internall(See Datasheet)", 9 VCC (power) "This is the positive supply input to the LTC4212. The LTC4212 operates from 2.5V < VCC < 16.5V, and the supply current is typically 1mA. An internal undervoltage lockout circuit disables the device until the voltage at VCC (See Datasheet)", 10 ~{FAULT} (oc) "Open Drain F\A\U\L\T\ Output or External connected by a 10k pull-up resistor to VCC. An external circuit can also trip the ECB by driving F\A\U\L\T\ below 1.236V (typical). F\A\U\L\T\ Input. If the FAST COMP, SLOW COMP or (See Datasheet)"

## LTC4212IMS#TRPBF
designator U?
Hot Swap Controller with Power-Up Timeout, 2.5 to 16.5 V Vin, 10-pin SOP (MS-10), -40 to 85 degC, Pb-Free, Tape and Reel; Manufacturer: Linear Technology; PartNumber: LTC4212IMS#TRPBF; Active Limiting: no; Circuit Breaker Accuracy(%): 20; Circuit Breaker Threshold: 50 mV; Circuit Breakers(#): 1; Extended Temp: C, I; Fast Comparator: yes; In-Rush Current: Active; PackageVersion: Rev. E, 06/2010; PackageReference: MS-10; PackageDescription: 10-Pin Plastic MSOP, Body 3 x 3 mm, Pitch 0.5 mm; Supplier 1: Digi-Key; Supplier Part Number 1: LTC4212IMS#TRPBF-ND; Supplier 2: Newark; Supplier Part Number 2: 56M8798; Fault: no; Foldback: no; Packing: Tape and Reel; Power Good: no; Reset: no; RoHS: TRUE; Vin Range: 2.5 to 16.5 V; Mounting Technology: Surface Mount; ComponentLink1Description: Manufacturer URL; ComponentLink1URL: http://www.linear.com/; ComponentLink2Description: Datasheet; ComponentLink2URL: http://cds.linear.com/docs/en/datasheet/4212f.pdf; ComponentLink3Description: Package Specification; ComponentLink3URL: http://cds.linear.com/docs/en/packaging/05081661_F_MS.pdf
footprint LT-MS-10_N (SOP, 10-Leads, Body 3.1x3.1mm, Pitch 0.5mm, IPC Medium Density)
footprint LT-MS-10_L (SOP, 10-Leads, Body 3.1x3.1mm, Pitch 0.5mm, IPC High Density)
footprint LT-MS-10_M (SOP, 10-Leads, Body 3.1x3.1mm, Pitch 0.5mm, IPC Low Density)
pins: 1 ON (in) "On/Off Control Input. The ON pin is used to enable and disable LTC4212 operation and reset internal logic and the electronic circuit breaker (ECB). It must be pulled high (>1.316V) to start the first system timing cycle. If (See Datasheet)", 2 TIMER (in) "System Timer Input. An external capacitor (CTIMER) connected from this pin to ground determines the duration of the first and second system timing cycles. The first timing cycle allows time for the board to be inserted (See Datasheet)", 3 PGT (in) "Power Good Timer Input. An external capacitor (CPGT) connected from this pin to ground sets the power good time-out period. This is the maximum time allowed for externally monitored DC/DC converters to power-up into (See Datasheet)", 4 PGF (in) "Power Good Glitch Filter Input. An external capacitor (CPGF) connected from this pin to ground determines the power good glitch filter delay. The glitch filter is enabled if the externally monitored DC/DC converters are (See Datasheet)", 5 GND (power) "Device Ground Connection. Connect this pin to the system’s analog ground plane.", 6 PGI (in) "Power Good Input Pin. This pin is used by the power good circuit to sense the open drain R\S\T\ output or comparator outputs of an external supply monitor IC or the PGOOD output of a DC/DC converter. It requires an external (See Datasheet)", 7 GATE (out) "Gate Output Pin. The output signal at this pin is the high side gate drive for the external N-channel FET pass transistor. As shown in the Block Diagram, an internal charge pump supplies a 10mA gate current and sufficient (See Datasheet)", 8 SENSE (in) "Circuit Breaker Set Pin. With a sense resistor placed in the power path between VCC and SENSE, the LTC4212’s electronic circuit breaker trips if the voltage across the sense resistor exceeds the thresholds set internall(See Datasheet)", 9 VCC (power) "This is the positive supply input to the LTC4212. The LTC4212 operates from 2.5V < VCC < 16.5V, and the supply current is typically 1mA. An internal undervoltage lockout circuit disables the device until the voltage at VCC (See Datasheet)", 10 ~{FAULT} (oc) "Open Drain F\A\U\L\T\ Output or External connected by a 10k pull-up resistor to VCC. An external circuit can also trip the ECB by driving F\A\U\L\T\ below 1.236V (typical). F\A\U\L\T\ Input. If the FAST COMP, SLOW COMP or (See Datasheet)"

## LTC4213CDDB
designator U?
No RSENSE(TM) Electronic Circuit Breaker, 0 to 6 V Vin, 8-pin SON (DDB-8), 0 to 70 degC; Manufacturer: Linear Technology; PartNumber: LTC4213CDDB; Circuit Breaker Accuracy(%): 10; Circuit Breaker Threshold: 25 mV, 50 mV, 100mV; Circuit Breakers(#): 1; Extended Temp: C, I; Fast Comparator: yes; Vin Range: 0 to 6 V; PackageVersion: Rev. B, 06/2010; PackageReference: DDB-8; PackageDescription: 8-Pin Plastic DFN, Body 3 x 2 mm, Pitch 0.5 mm; Active Limiting: no; Fault: no; Foldback: no; Power Good: no; Reset: no; RoHS: FALSE; Mounting Technology: Surface Mount; Code_JEDEC: MO-229; ComponentLink1Description: Manufacturer URL; ComponentLink1URL: http://www.linear.com/; ComponentLink2Description: Datasheet; ComponentLink2URL: http://cds.linear.com/docs/en/datasheet/4213f.pdf; ComponentLink3Description: Package Specification; ComponentLink3URL: http://cds.linear.com/docs/en/packaging/DFN_8_05-08-1702.pdf
footprint LT-DDB-8_V (SON, 8-Leads, Body 3x2mm, Pitch 0.5mm, Thermal Pad 2.2x0.61mm)
pins: 1 READY (hiz) "READY Status Output. Open drain output that goes high impedance when the external MOSFET is on and the circuit breaker is armed. Otherwise this pin pulls low.", 2 ON (in) "ON Control Input. The LTC4213 is in reset mode when the ON pin is below 0.4V. When the ON pin increases above 0.8V, the device starts up and the GATE pulls up with a 100uA current source. When the ON pin drops below 0.76V, (See Datasheet)", 3 ISEL (in) "Threshold Select Input. With the ISEL pin grounded, float or tied to VCC the VCB is set to 25mV, 50mV or 100mV, respectively. The corresponding VCB(FAST) values are 100mV, 175mV and 325mV.", 4 GND (power) "Device Ground.", 5 GATE (out) "GATE Drive Output. An internal charge pump supplies 100uA pull-up current to the gate of the external N-channel MOSFET. Internal circuitry limits the voltage between the GATE and SENSEN pins to a safe gate drive voltage of (See Datasheet)", 6 SENSEN (in) "Circuit Breaker Negative Sense Input. Connect this pin to the source of the external MOSFET. During reset or fault mode, the SENSEN pin discharges the output to ground with 280uA.", 7 SENSEP (in) "Circuit Breaker Positive Sense Input. Connect this pin to the drain of external N-channel MOSFET. The circuit breaker trips when the voltage across SENSEP and SENSEN exceeds VCB. The input common mode range of the circuit (See Datasheet)", 8 VCC (power) "Bias Supply Voltage Input. Normal operation is between 2.3V and 6V. An internal under-voltage lockout circuit disables the device when VCC < 2.07V.", 9 EP "Exposed pad may be left open or connected to device ground."

## LTC4213CDDB#PBF
designator U?
No RSENSE(TM) Electronic Circuit Breaker, 0 to 6 V Vin, 8-pin SON (DDB-8), 0 to 70 degC, Pb-Free; Manufacturer: Linear Technology; PartNumber: LTC4213CDDB#PBF; Circuit Breaker Accuracy(%): 10; Circuit Breaker Threshold: 25 mV, 50 mV, 100mV; Circuit Breakers(#): 1; Extended Temp: C, I; Fast Comparator: yes; Vin Range: 0 to 6 V; PackageVersion: Rev. B, 06/2010; PackageReference: DDB-8; PackageDescription: 8-Pin Plastic DFN, Body 3 x 2 mm, Pitch 0.5 mm; Supplier 1: Farnell; Supplier Part Number 1: 2295326; Active Limiting: no; Fault: no; Foldback: no; Power Good: no; Reset: no; RoHS: TRUE; Mounting Technology: Surface Mount; Code_JEDEC: MO-229; ComponentLink1Description: Manufacturer URL; ComponentLink1URL: http://www.linear.com/; ComponentLink2Description: Datasheet; ComponentLink2URL: http://cds.linear.com/docs/en/datasheet/4213f.pdf; ComponentLink3Description: Package Specification; ComponentLink3URL: http://cds.linear.com/docs/en/packaging/DFN_8_05-08-1702.pdf
footprint LT-DDB-8_V (SON, 8-Leads, Body 3x2mm, Pitch 0.5mm, Thermal Pad 2.2x0.61mm)
pins: 1 READY (hiz) "READY Status Output. Open drain output that goes high impedance when the external MOSFET is on and the circuit breaker is armed. Otherwise this pin pulls low.", 2 ON (in) "ON Control Input. The LTC4213 is in reset mode when the ON pin is below 0.4V. When the ON pin increases above 0.8V, the device starts up and the GATE pulls up with a 100uA current source. When the ON pin drops below 0.76V, (See Datasheet)", 3 ISEL (in) "Threshold Select Input. With the ISEL pin grounded, float or tied to VCC the VCB is set to 25mV, 50mV or 100mV, respectively. The corresponding VCB(FAST) values are 100mV, 175mV and 325mV.", 4 GND (power) "Device Ground.", 5 GATE (out) "GATE Drive Output. An internal charge pump supplies 100uA pull-up current to the gate of the external N-channel MOSFET. Internal circuitry limits the voltage between the GATE and SENSEN pins to a safe gate drive voltage of (See Datasheet)", 6 SENSEN (in) "Circuit Breaker Negative Sense Input. Connect this pin to the source of the external MOSFET. During reset or fault mode, the SENSEN pin discharges the output to ground with 280uA.", 7 SENSEP (in) "Circuit Breaker Positive Sense Input. Connect this pin to the drain of external N-channel MOSFET. The circuit breaker trips when the voltage across SENSEP and SENSEN exceeds VCB. The input common mode range of the circuit (See Datasheet)", 8 VCC (power) "Bias Supply Voltage Input. Normal operation is between 2.3V and 6V. An internal under-voltage lockout circuit disables the device when VCC < 2.07V.", 9 EP "Exposed pad may be left open or connected to device ground."